# Altium schematic symbol library dcdc.SchLib: 14 symbols
Pins are listed as number, name and electrical type; pins without a type are passive.

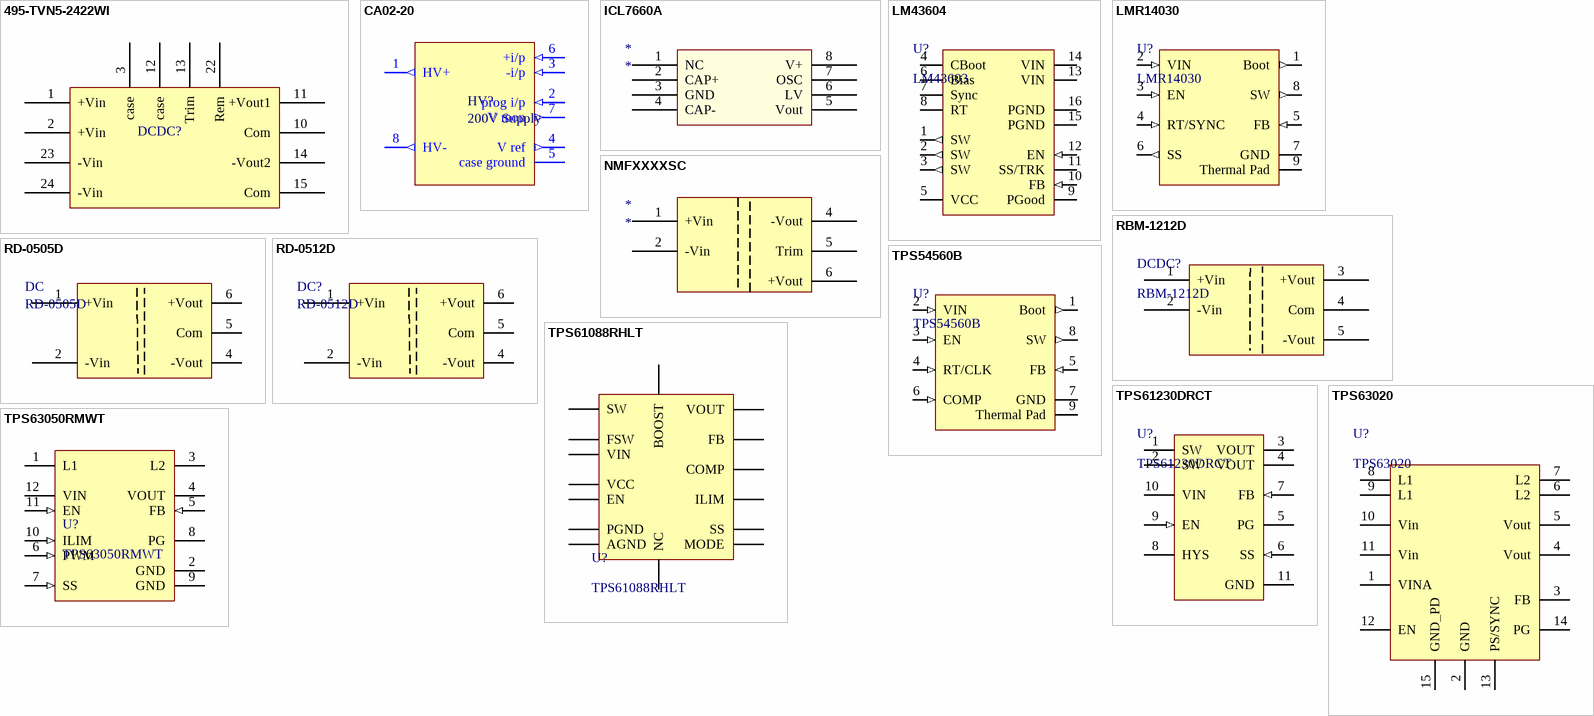
[diagram p0: symbols 495-TVN5-2422WI to TPS63050RMWT]

## 495-TVN5-2422WI
designator DCDC?  (value not drawn)
9-36VDC to +-12V at 208 mA; Supplier 1: Farnell; Supplier Part Number 1: 1021478
footprint DIP24dcdc
pins: 1 +Vin, 2 +Vin, 3 case, 10 Com, 11 +Vout1, 12 case, 13 Trim, 14 -Vout2, 15 Com, 22 Rem, 23 -Vin, 24 -Vin

## CA02-20
designator HV?, comment 200V Supply
EMCO 200V DC programmable supply; ComponentLink1Description: CA02P-5; ComponentLink1URL: https://uk.rs-online.com/web/p/non-isolated-dc-to-high-voltage-dc-converters/1238375/?sra=pmpn
footprint CA02-20 (EMCO CA series)
pins: 1 HV+ (out), 2 prog i/p (in), 3 -i/p (in), 4 V ref (out), 5 case ground, 6 +i/p (in), 7 V mon (out), 8 HV- (out)

## ICL7660A
designator *
Supply Voltage Converter; Supplier 1: Farnell; Supplier Part Number 1: 2111975
footprint ICL7660_SOP127P600X175-8N (SOP, 8-Leads, Body 4.90x3.90mm, Pitch 1.27mm, IPC Medium Density)
pins: 1 NC, 2 CAP+, 3 GND (power), 4 CAP-, 5 Vout (power), 6 LV (hiz), 7 OSC, 8 V+ (power)

## LM43604
designator U?, comment LM43603
3.5-36V, 3A DC-DC; Supplier 1: Farnell; Supplier Part Number 1: 2752924
footprint LM43603 (DC-DC, 36V In, Variable Out, 3A)
pins: 1 SW (out), 2 SW (out), 3 SW (out), 4 CBoot, 5 VCC (power), 6 Bias, 7 Sync, 8 RT, 9 PGood (oc), 10 FB (in), 11 SS/TRK, 12 EN (in), 13 VIN (power), 14 VIN (power), 15 PGND, 16 PGND

## LMR14030
designator U?
40V, 3.5A SIMPLE SWITCHER, 2.2MHz Step-Down Regulator; Supplier 1: Farnell; Supplier 2: RSComponents; Supplier 3: Mouser; Supplier Part Number 1: 2473853; Supplier Part Number 2: 9083880; Supplier Part Number 3: 595-LMR14030SDDA
footprint LMR14030 (40V, 3.5A SIMPLE SWITCHER, 2.2MHz Step-Down Regulator with 40uA IQ)
pins: 1 Boot (out), 2 VIN (in), 3 EN (in), 4 RT/SYNC (in), 5 FB (in), 6 SS (out), 7 GND, 8 SW (out), 9 Thermal Pad

## NMFXXXXSC
designator *
footprint NMFXXXXSC (murata NMF)
pins: 1 +Vin, 2 -Vin, 4 -Vout, 5 Trim, 6 +Vout

## RBM-1212D
designator DCDC?
Supplier 1: Farnell; Supplier Part Number 1: 2475850
footprint RBM-1212D
pins: 1 +Vin, 2 -Vin, 3 +Vout, 4 Com, 5 -Vout

## RD-0505D
designator DC
5v to +-5V isolated dcdc converter; Supplier 1: Farnell; Supplier Part Number 1: 1793233
footprint Recom_RD-XXXXD (recom RD series dual footprint)
pins: 1 +Vin, 2 -Vin, 4 -Vout, 5 Com, 6 +Vout

## RD-0512D
designator DC?
Supplier 1: Farnell; Supplier Part Number 1: 1793234
footprint Recom_RD-XXXXD (recom RD series dual footprint)
pins: 1 +Vin, 2 -Vin, 4 -Vout, 5 Com, 6 +Vout

## TPS54560B
designator U?
4.5V to 60V in, 0.8V-58.8V/5A; Supplier 1: Mouser; Supplier Part Number 1: 595-TPS54560BQDDARQ1
footprint TPS54560B (DC-DC Switching Buck (Step Down) Regulator, Adjustable, 4.5V to 60V in, 0.8V-58.8V/5A out)
pins: 1 Boot (out), 2 VIN (in), 3 EN (in), 4 RT/CLK (in), 5 FB (in), 6 COMP (in), 7 GND, 8 SW (out), 9 Thermal Pad

## TPS61088RHLT
designator U?
DC-DC Switching Boost Step Up Regulator; Supplier 1: Farnell; Supplier Part Number 1: 2483158
footprint TPS61088RHLT (QFN, 24-Leads, Body 4.50x3.50mm, Pitch 0.50mm, Thermal Pad 3.10x2.10mm, IPC Medium Density)
pins: 1 VCC, 2 EN, 3 FSW, 8 BOOST, 9 VIN, 10 SS, 13 MODE, 17 FB, 18 COMP, 19 ILIM, 20 AGND, 21 PGND, NC, SW, VOUT

## TPS61230DRCT
designator U?
High Efficiency Synchronous Boost Converter With 5-A Switch; Supplier 1: Farnell; Supplier Part Number 1: 2425783
footprint TPS61230DRCT
pins: 1 SW (power) "The switch terminal of the converter. It is connected to the drain of the internal Power MOSFETs.", 2 SW (power) "The switch terminal of the converter. It is connected to the drain of the internal Power MOSFETs.", 3 VOUT (power) "Boost converter output terminal.", 4 VOUT (power) "Boost converter output terminal.", 5 PG (oc) "Power Good open drain output. Can be left floating if not used.", 6 SS (in) "Soft startup terminal. A soft startup capacitor connects to this terminal to set the soft start time.", 7 FB (in) "Voltage feedback of adjustable versions. Must be connected to VOUT on fixed output voltage version.", 8 HYS (hiz) "EN hysteresis program terminal. See the application section for details. Can be left floating if not used.", 9 EN (in) "Enable logic input. Logic HIGH enables the device. Logic LOW disables the device and turns it into shutdown mode. This terminal must be terminated.", 10 VIN (power) "Supply voltage terminal.", 11 GND (power) "Ground terminal."

## TPS63020
designator U?
Supplier 1: Farnell; Supplier Part Number 1: 2542792
footprint TPS63020 (TPS63020 DC DC)
pins: 1 VINA, 2 GND, 3 FB, 4 Vout, 5 Vout, 6 L2, 7 L2, 8 L1, 9 L1, 10 Vin, 11 Vin, 12 EN, 13 PS/SYNC, 14 PG, 15 GND_PD

## TPS63050RMWT
designator U?
DC-DC Switching Buck-Boost Regulator; Supplier 1: Farnell; Supplier Part Number 1: 2498500
footprint TPS63050RMWT (VQFN-12)
pins: 1 L1, 2 GND (power), 3 L2, 4 VOUT (power), 5 FB (in), 6 PWM (in), 7 SS (in), 8 PG (oc), 9 GND (power), 10 ILIM (in), 11 EN (in), 12 VIN (power)